# Altium schematic symbol library Device.SchLib: 567 symbols (part 3 of 3)

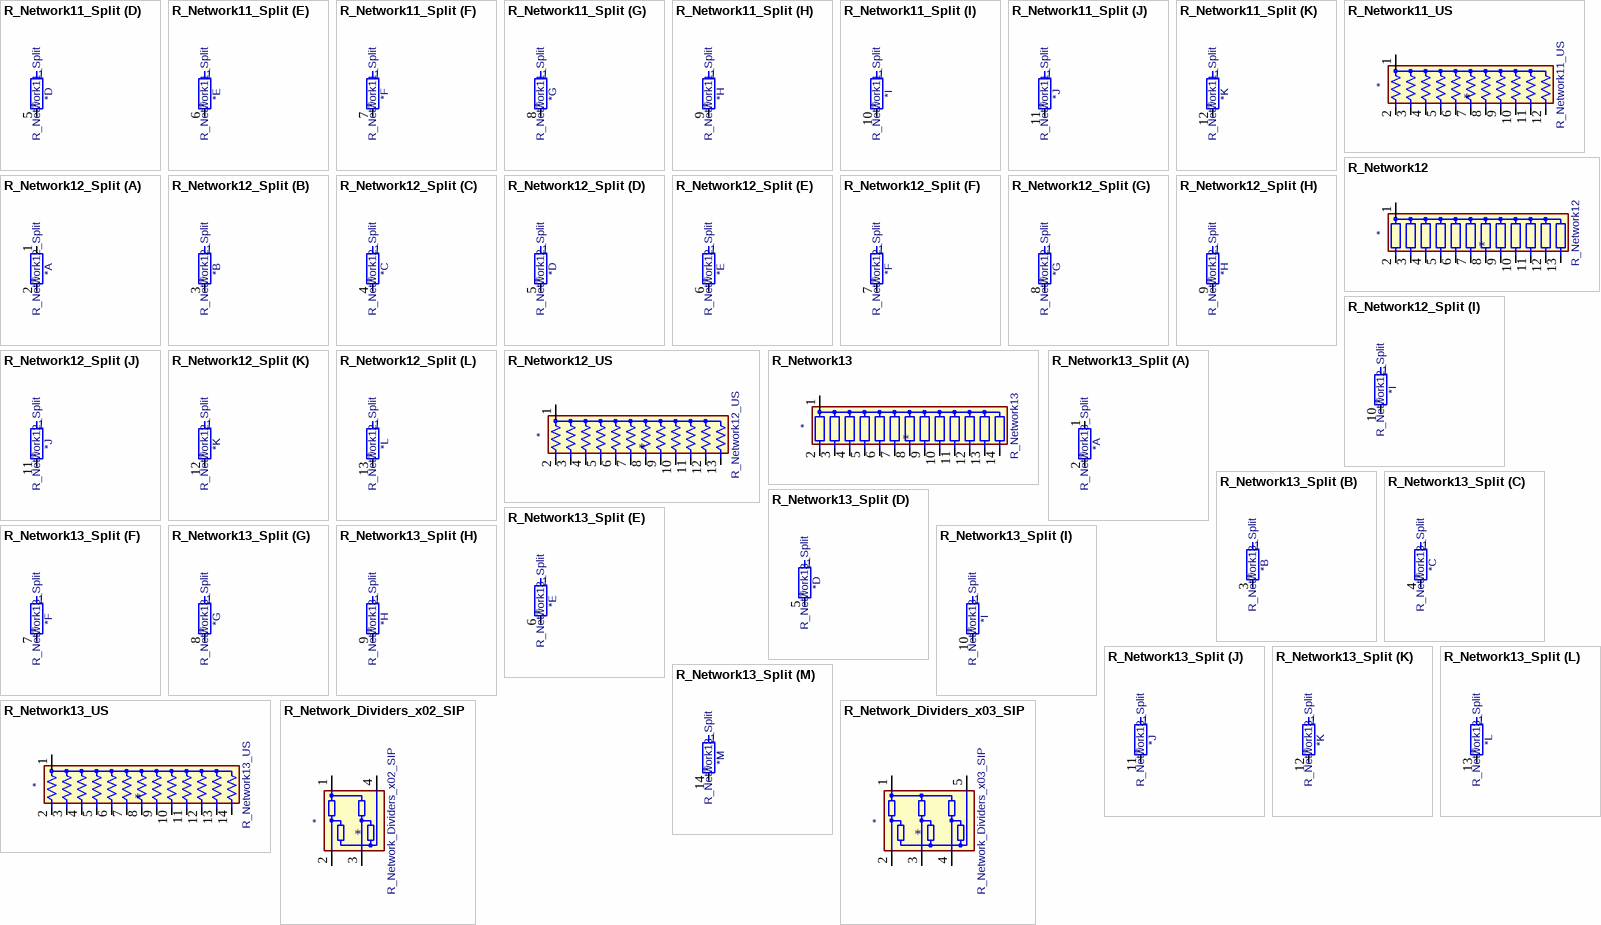
[diagram p14: symbols R_Network11_Split to R_Network_Dividers_x03_SIP]

## R_Network11_Split
designator *  value R_Network11_Split
ki_keywords: R network star-topology; ki_description: 11 resistor network, star topology, bussed resistors, split; ki_fp_filters: R?Array?SIP*; Footprint: Resistor_THT:R_Array_SIP12; Supplier: http://www.vishay.com/docs/31509/csc.pdf
footprint R_Array_SIP12
part A pins: 1 R1.1, 2 R1.2
part B pins: 3 R2.2
part C pins: 4 R3.2
part D pins: 5 R4.2
part E pins: 6 R5.2
part F pins: 7 R6.2
part G pins: 8 R7.2
part H pins: 9 R8.2
part I pins: 10 R9.2
part J pins: 11 R10.2
part K pins: 12 R11.2

## R_Network11_US
designator *  value R_Network11_US
ki_keywords: R network star-topology; ki_description: 11 resistor network, star topology, bussed resistors, small US symbol; ki_fp_filters: R?Array?SIP*; Footprint: Resistor_THT:R_Array_SIP12; Supplier: http://www.vishay.com/docs/31509/csc.pdf
footprint R_Array_SIP12
pins: 1 common, 2 R1, 3 R2, 4 R3, 5 R4, 6 R5, 7 R6, 8 R7, 9 R8, 10 R9, 11 R10, 12 R11

## R_Network12
designator *  value R_Network12
ki_keywords: R network star-topology; ki_description: 12 resistor network, star topology, bussed resistors, small symbol; ki_fp_filters: R?Array?SIP*; Footprint: Resistor_THT:R_Array_SIP13; Supplier: http://www.vishay.com/docs/31509/csc.pdf
footprint R_Array_SIP13
pins: 1 common, 2 R1, 3 R2, 4 R3, 5 R4, 6 R5, 7 R6, 8 R7, 9 R8, 10 R9, 11 R10, 12 R11, 13 R12

## R_Network12_Split
designator *  value R_Network12_Split
ki_keywords: R network star-topology; ki_description: 12 resistor network, star topology, bussed resistors, split; ki_fp_filters: R?Array?SIP*; Footprint: Resistor_THT:R_Array_SIP13; Supplier: http://www.vishay.com/docs/31509/csc.pdf
footprint R_Array_SIP13
part A pins: 1 R1.1, 2 R1.2
part B pins: 3 R2.2
part C pins: 4 R3.2
part D pins: 5 R4.2
part E pins: 6 R5.2
part F pins: 7 R6.2
part G pins: 8 R7.2
part H pins: 9 R8.2
part I pins: 10 R9.2
part J pins: 11 R10.2
part K pins: 12 R11.2
part L pins: 13 R12.2

## R_Network12_US
designator *  value R_Network12_US
ki_keywords: R network star-topology; ki_description: 12 resistor network, star topology, bussed resistors, small US symbol; ki_fp_filters: R?Array?SIP*; Footprint: Resistor_THT:R_Array_SIP13; Supplier: http://www.vishay.com/docs/31509/csc.pdf
footprint R_Array_SIP13
pins: 1 common, 2 R1, 3 R2, 4 R3, 5 R4, 6 R5, 7 R6, 8 R7, 9 R8, 10 R9, 11 R10, 12 R11, 13 R12

## R_Network13
designator *  value R_Network13
ki_keywords: R network star-topology; ki_description: 13 resistor network, star topology, bussed resistors, small symbol; ki_fp_filters: R?Array?SIP*; Footprint: Resistor_THT:R_Array_SIP14; Supplier: http://www.vishay.com/docs/31509/csc.pdf
footprint R_Array_SIP14
pins: 1 common, 2 R1, 3 R2, 4 R3, 5 R4, 6 R5, 7 R6, 8 R7, 9 R8, 10 R9, 11 R10, 12 R11, 13 R12, 14 R13

## R_Network13_Split
designator *  value R_Network13_Split
ki_keywords: R network star-topology; ki_description: 13 resistor network, star topology, bussed resistors, split; ki_fp_filters: R?Array?SIP*; Footprint: Resistor_THT:R_Array_SIP14; Supplier: http://www.vishay.com/docs/31509/csc.pdf
footprint R_Array_SIP14
part A pins: 1 R1.1, 2 R1.2
part B pins: 3 R2.2
part C pins: 4 R3.2
part D pins: 5 R4.2
part E pins: 6 R5.2
part F pins: 7 R6.2
part G pins: 8 R7.2
part H pins: 9 R8.2
part I pins: 10 R9.2
part J pins: 11 R10.2
part K pins: 12 R11.2
part L pins: 13 R12.2
part M pins: 14 R13.2

## R_Network13_US
designator *  value R_Network13_US
ki_keywords: R network star-topology; ki_description: 13 resistor network, star topology, bussed resistors, small US symbol; ki_fp_filters: R?Array?SIP*; Footprint: Resistor_THT:R_Array_SIP14; Supplier: http://www.vishay.com/docs/31509/csc.pdf
footprint R_Array_SIP14
pins: 1 common, 2 R1, 3 R2, 4 R3, 5 R4, 6 R5, 7 R6, 8 R7, 9 R8, 10 R9, 11 R10, 12 R11, 13 R12, 14 R13

## R_Network_Dividers_x02_SIP
designator *  value R_Network_Dividers_x02_SIP
ki_keywords: R network divider topology; ki_description: 2 voltage divider network, dual terminator, SIP package; ki_fp_filters: R?Array?SIP*; Footprint: Resistor_THT:R_Array_SIP4; Supplier: http://www.vishay.com/docs/31509/csc.pdf
footprint R_Array_SIP4
pins: 1 COM1, 2 R1, 3 R2, 4 COM2

## R_Network_Dividers_x03_SIP
designator *  value R_Network_Dividers_x03_SIP
ki_keywords: R network divider topology; ki_description: 3 voltage divider network, dual terminator, SIP package; ki_fp_filters: R?Array?SIP*; Footprint: Resistor_THT:R_Array_SIP5; Supplier: http://www.vishay.com/docs/31509/csc.pdf
footprint R_Array_SIP5
pins: 1 COM1, 2 R1, 3 R2, 4 R3, 5 COM2

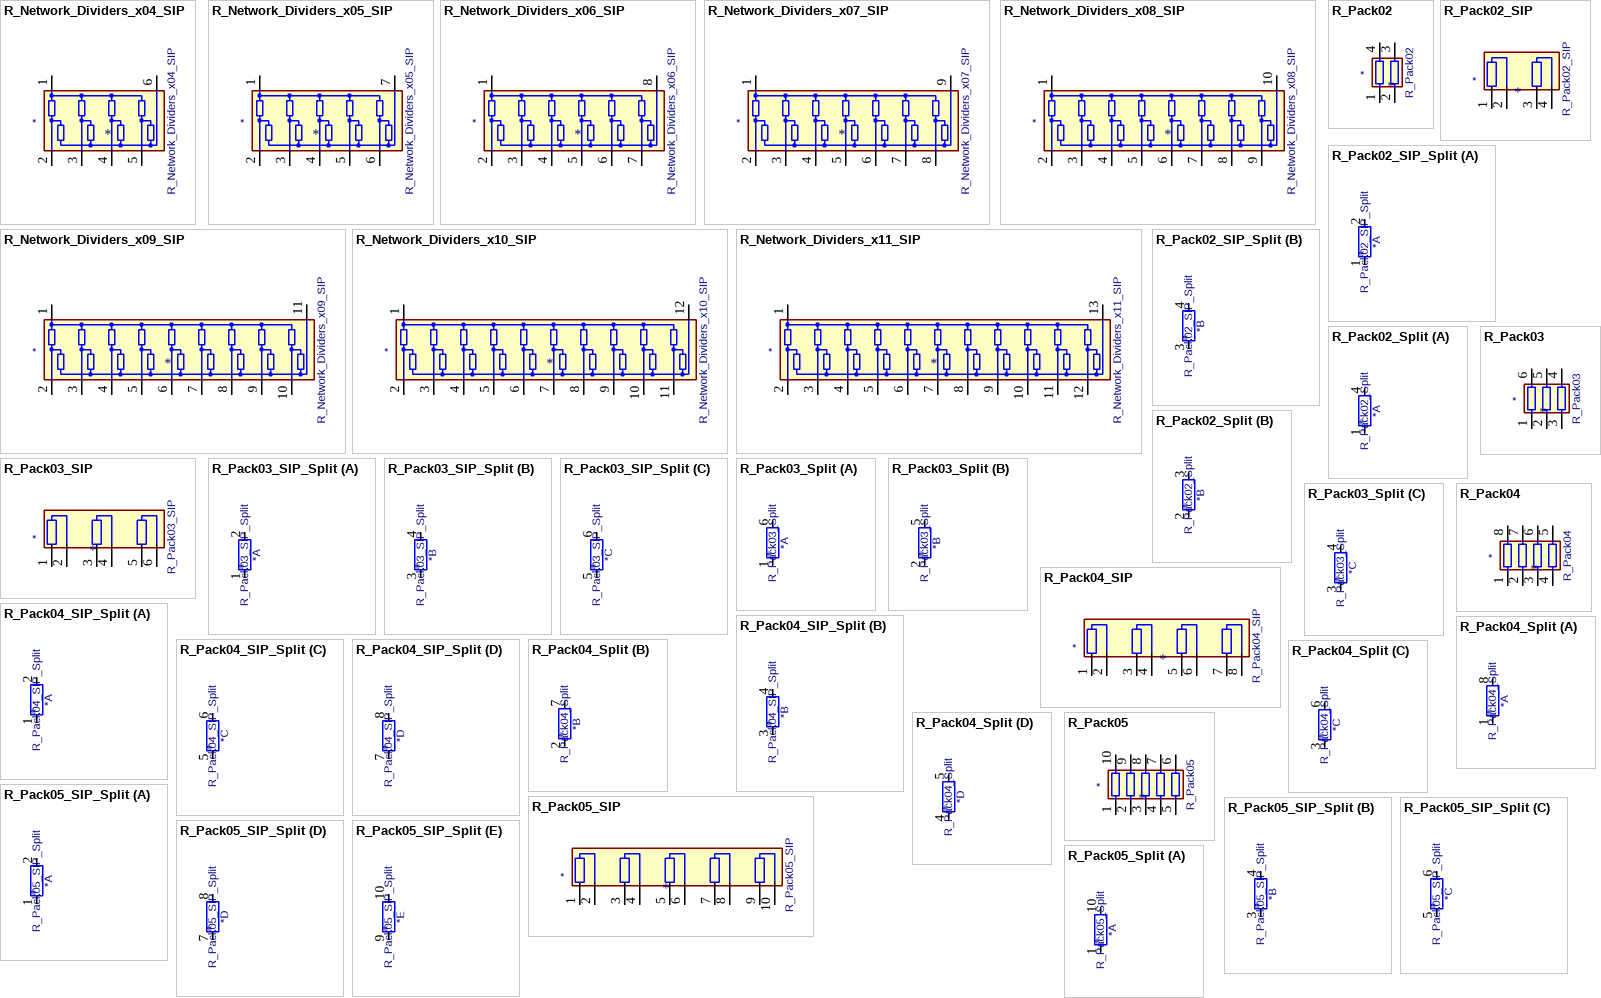
[diagram p15: symbols R_Network_Dividers_x04_SIP to R_Pack05_Split]

## R_Network_Dividers_x04_SIP
designator *  value R_Network_Dividers_x04_SIP
ki_keywords: R network divider topology; ki_description: 4 voltage divider network, dual terminator, SIP package; ki_fp_filters: R?Array?SIP*; Footprint: Resistor_THT:R_Array_SIP6; Supplier: http://www.vishay.com/docs/31509/csc.pdf
footprint R_Array_SIP6
pins: 1 COM1, 2 R1, 3 R2, 4 R3, 5 R4, 6 COM2

## R_Network_Dividers_x05_SIP
designator *  value R_Network_Dividers_x05_SIP
ki_keywords: R network divider topology; ki_description: 5 voltage divider network, dual terminator, SIP package; ki_fp_filters: R?Array?SIP*; Footprint: Resistor_THT:R_Array_SIP7; Supplier: http://www.vishay.com/docs/31509/csc.pdf
footprint R_Array_SIP7
pins: 1 COM1, 2 R1, 3 R2, 4 R3, 5 R4, 6 R5, 7 COM2

## R_Network_Dividers_x06_SIP
designator *  value R_Network_Dividers_x06_SIP
ki_keywords: R network divider topology; ki_description: 6 voltage divider network, dual terminator, SIP package; ki_fp_filters: R?Array?SIP*; Footprint: Resistor_THT:R_Array_SIP8; Supplier: http://www.vishay.com/docs/31509/csc.pdf
footprint R_Array_SIP8
pins: 1 COM1, 2 R1, 3 R2, 4 R3, 5 R4, 6 R5, 7 R6, 8 COM2

## R_Network_Dividers_x07_SIP
designator *  value R_Network_Dividers_x07_SIP
ki_keywords: R network divider topology; ki_description: 7 voltage divider network, dual terminator, SIP package; ki_fp_filters: R?Array?SIP*; Footprint: Resistor_THT:R_Array_SIP9; Supplier: http://www.vishay.com/docs/31509/csc.pdf
footprint R_Array_SIP9
pins: 1 COM1, 2 R1, 3 R2, 4 R3, 5 R4, 6 R5, 7 R6, 8 R7, 9 COM2

## R_Network_Dividers_x08_SIP
designator *  value R_Network_Dividers_x08_SIP
ki_keywords: R network divider topology; ki_description: 8 voltage divider network, dual terminator, SIP package; ki_fp_filters: R?Array?SIP*; Footprint: Resistor_THT:R_Array_SIP10; Supplier: http://www.vishay.com/docs/31509/csc.pdf
footprint R_Array_SIP10
pins: 1 COM1, 2 R1, 3 R2, 4 R3, 5 R4, 6 R5, 7 R6, 8 R7, 9 R8, 10 COM2

## R_Network_Dividers_x09_SIP
designator *  value R_Network_Dividers_x09_SIP
ki_keywords: R network divider topology; ki_description: 9 voltage divider network, dual terminator, SIP package; ki_fp_filters: R?Array?SIP*; Footprint: Resistor_THT:R_Array_SIP11; Supplier: http://www.vishay.com/docs/31509/csc.pdf
footprint R_Array_SIP11
pins: 1 COM1, 2 R1, 3 R2, 4 R3, 5 R4, 6 R5, 7 R6, 8 R7, 9 R8, 10 R9, 11 COM2

## R_Network_Dividers_x10_SIP
designator *  value R_Network_Dividers_x10_SIP
ki_keywords: R network divider topology; ki_description: 10 voltage divider network, dual terminator, SIP package; ki_fp_filters: R?Array?SIP*; Footprint: Resistor_THT:R_Array_SIP12; Supplier: http://www.vishay.com/docs/31509/csc.pdf
footprint R_Array_SIP12
pins: 1 COM1, 2 R1, 3 R2, 4 R3, 5 R4, 6 R5, 7 R6, 8 R7, 9 R8, 10 R9, 11 R10, 12 COM2

## R_Network_Dividers_x11_SIP
designator *  value R_Network_Dividers_x11_SIP
ki_keywords: R network divider topology; ki_description: 11 voltage divider network, dual terminator, SIP package; ki_fp_filters: R?Array?SIP*; Footprint: Resistor_THT:R_Array_SIP13; Supplier: http://www.vishay.com/docs/31509/csc.pdf
footprint R_Array_SIP13
pins: 1 COM1, 2 R1, 3 R2, 4 R3, 5 R4, 6 R5, 7 R6, 8 R7, 9 R8, 10 R9, 11 R10, 12 R11, 13 COM2

## R_Pack02
designator *  value R_Pack02
ki_keywords: R network parallel topology isolated; ki_description: 2 resistor network, parallel topology; ki_fp_filters: DIP* SOIC* R*Array*Concave* R*Array*Convex*; Supplier: ~
pins: 1 R1.1, 2 R2.1, 3 R2.2, 4 R1.2

## R_Pack02_SIP
designator *  value R_Pack02_SIP
ki_keywords: R network parallel topology isolated; ki_description: 2 resistor network, parallel topology, SIP package; ki_fp_filters: R?Array?SIP*; Footprint: Resistor_THT:R_Array_SIP4; Supplier: http://www.vishay.com/docs/31509/csc.pdf
footprint R_Array_SIP4
pins: 1 R1.1, 2 R1.2, 3 R2.1, 4 R2.2

## R_Pack02_SIP_Split
designator *  value R_Pack02_SIP_Split
ki_keywords: R network parallel topology isolated; ki_description: 2 resistor network, parallel topology, SIP package, split; ki_fp_filters: R?Array?SIP*; Footprint: Resistor_THT:R_Array_SIP4; Supplier: http://www.vishay.com/docs/31509/csc.pdf
footprint R_Array_SIP4
part A pins: 1 R1.1, 2 R1.2
part B pins: 3 R2.1, 4 R2.2

## R_Pack02_Split
designator *  value R_Pack02_Split
ki_keywords: R network parallel topology isolated; ki_description: 2 resistor network, parallel topology, split; ki_fp_filters: DIP* SOIC* R*Array*Concave* R*Array*Convex*; Supplier: ~
part A pins: 1 R1.1, 4 R1.2
part B pins: 2 R2.1, 3 R2.2

## R_Pack03
designator *  value R_Pack03
ki_keywords: R network parallel topology isolated; ki_description: 3 resistor network, parallel topology; ki_fp_filters: DIP* SOIC* R*Array*Concave* R*Array*Convex*; Supplier: ~
pins: 1 R1.1, 2 R2.1, 3 R3.1, 4 R3.2, 5 R2.2, 6 R1.2

## R_Pack03_SIP
designator *  value R_Pack03_SIP
ki_keywords: R network parallel topology isolated; ki_description: 3 resistor network, parallel topology, SIP package; ki_fp_filters: R?Array?SIP*; Footprint: Resistor_THT:R_Array_SIP6; Supplier: http://www.vishay.com/docs/31509/csc.pdf
footprint R_Array_SIP6
pins: 1 R1.1, 2 R1.2, 3 R2.1, 4 R2.2, 5 R3.1, 6 R3.2

## R_Pack03_SIP_Split
designator *  value R_Pack03_SIP_Split
ki_keywords: R network parallel topology isolated; ki_description: 3 resistor network, parallel topology, SIP package, split; ki_fp_filters: R?Array?SIP*; Footprint: Resistor_THT:R_Array_SIP6; Supplier: http://www.vishay.com/docs/31509/csc.pdf
footprint R_Array_SIP6
part A pins: 1 R1.1, 2 R1.2
part B pins: 3 R2.1, 4 R2.2
part C pins: 5 R3.1, 6 R3.2

## R_Pack03_Split
designator *  value R_Pack03_Split
ki_keywords: R network parallel topology isolated; ki_description: 3 resistor network, parallel topology, split; ki_fp_filters: DIP* SOIC* R*Array*Concave* R*Array*Convex*; Supplier: ~
part A pins: 1 R1.1, 6 R1.2
part B pins: 2 R2.1, 5 R2.2
part C pins: 3 R3.1, 4 R3.2

## R_Pack04
designator *  value R_Pack04
ki_keywords: R network parallel topology isolated; ki_description: 4 resistor network, parallel topology; ki_fp_filters: DIP* SOIC* R*Array*Concave* R*Array*Convex*; Supplier: ~
pins: 1 R1.1, 2 R2.1, 3 R3.1, 4 R4.1, 5 R4.2, 6 R3.2, 7 R2.2, 8 R1.2

## R_Pack04_SIP
designator *  value R_Pack04_SIP
ki_keywords: R network parallel topology isolated; ki_description: 4 resistor network, parallel topology, SIP package; ki_fp_filters: R?Array?SIP*; Footprint: Resistor_THT:R_Array_SIP8; Supplier: http://www.vishay.com/docs/31509/csc.pdf
footprint R_Array_SIP8
pins: 1 R1.1, 2 R1.2, 3 R2.1, 4 R2.2, 5 R3.1, 6 R3.2, 7 R4.1, 8 R4.2

## R_Pack04_SIP_Split
designator *  value R_Pack04_SIP_Split
ki_keywords: R network parallel topology isolated; ki_description: 4 resistor network, parallel topology, SIP package, split; ki_fp_filters: R?Array?SIP*; Footprint: Resistor_THT:R_Array_SIP8; Supplier: http://www.vishay.com/docs/31509/csc.pdf
footprint R_Array_SIP8
part A pins: 1 R1.1, 2 R1.2
part B pins: 3 R2.1, 4 R2.2
part C pins: 5 R3.1, 6 R3.2
part D pins: 7 R4.1, 8 R4.2

## R_Pack04_Split
designator *  value R_Pack04_Split
ki_keywords: R network parallel topology isolated; ki_description: 4 resistor network, parallel topology, split; ki_fp_filters: DIP* SOIC* R*Array*Concave* R*Array*Convex*; Supplier: ~
part A pins: 1 R1.1, 8 R1.2
part B pins: 2 R2.1, 7 R2.2
part C pins: 3 R3.1, 6 R3.2
part D pins: 4 R4.1, 5 R4.2

## R_Pack05
designator *  value R_Pack05
ki_keywords: R network parallel topology isolated; ki_description: 5 resistor network, parallel topology; ki_fp_filters: DIP* SOIC* R*Array*Concave* R*Array*Convex*; Supplier: ~
pins: 1 R1.1, 2 R2.1, 3 R3.1, 4 R4.1, 5 R5.1, 6 R5.2, 7 R4.2, 8 R3.2, 9 R2.2, 10 R1.2

## R_Pack05_SIP
designator *  value R_Pack05_SIP
ki_keywords: R network parallel topology isolated; ki_description: 5 resistor network, parallel topology, SIP package; ki_fp_filters: R?Array?SIP*; Footprint: Resistor_THT:R_Array_SIP10; Supplier: http://www.vishay.com/docs/31509/csc.pdf
footprint R_Array_SIP10
pins: 1 R1.1, 2 R1.2, 3 R2.1, 4 R2.2, 5 R3.1, 6 R3.2, 7 R4.1, 8 R4.2, 9 R5.1, 10 R5.2

## R_Pack05_SIP_Split
designator *  value R_Pack05_SIP_Split
ki_keywords: R network parallel topology isolated; ki_description: 5 resistor network, parallel topology, SIP package, split; ki_fp_filters: R?Array?SIP*; Footprint: Resistor_THT:R_Array_SIP10; Supplier: http://www.vishay.com/docs/31509/csc.pdf
footprint R_Array_SIP10
part A pins: 1 R1.1, 2 R1.2
part B pins: 3 R2.1, 4 R2.2
part C pins: 5 R3.1, 6 R3.2
part D pins: 7 R4.1, 8 R4.2
part E pins: 9 R5.1, 10 R5.2

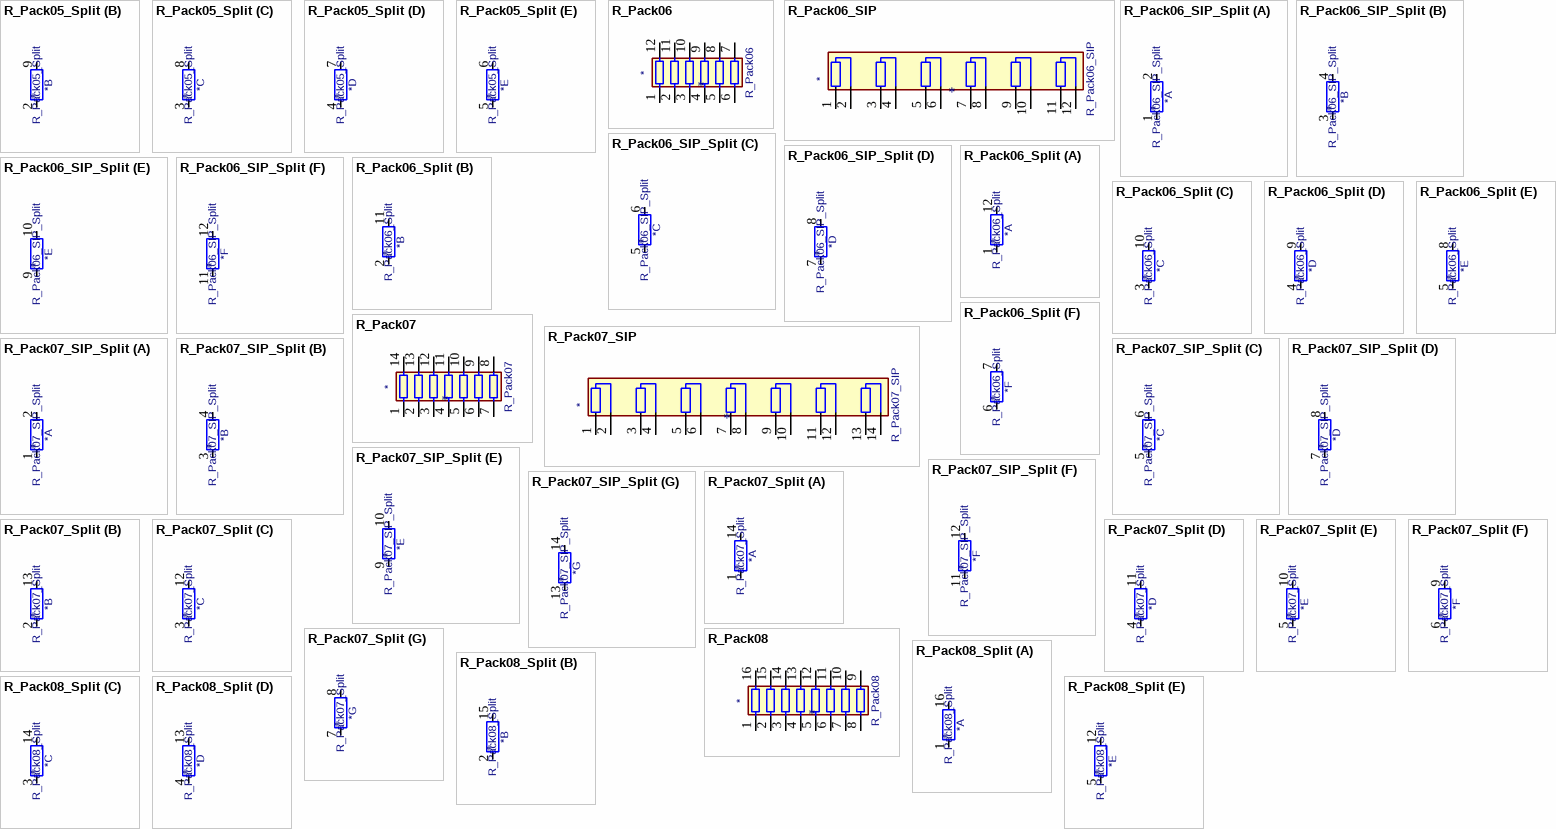
[diagram p16: symbols R_Pack05_Split to R_Pack08_Split]

## R_Pack05_Split
designator *  value R_Pack05_Split
ki_keywords: R network parallel topology isolated; ki_description: 5 resistor network, parallel topology, split; ki_fp_filters: DIP* SOIC* R*Array*Concave* R*Array*Convex*; Supplier: ~
part A pins: 1 R1.1, 10 R1.2
part B pins: 2 R2.1, 9 R2.2
part C pins: 3 R3.1, 8 R3.2
part D pins: 4 R4.1, 7 R4.2
part E pins: 5 R5.1, 6 R5.2

## R_Pack06
designator *  value R_Pack06
ki_keywords: R network parallel topology isolated; ki_description: 6 resistor network, parallel topology; ki_fp_filters: DIP* SOIC* R*Array*Concave* R*Array*Convex*; Supplier: ~
pins: 1 R1.1, 2 R2.1, 3 R3.1, 4 R4.1, 5 R5.1, 6 R6.1, 7 R6.2, 8 R5.2, 9 R4.2, 10 R3.2, 11 R2.2, 12 R1.2

## R_Pack06_SIP
designator *  value R_Pack06_SIP
ki_keywords: R network parallel topology isolated; ki_description: 6 resistor network, parallel topology, SIP package; ki_fp_filters: R?Array?SIP*; Footprint: Resistor_THT:R_Array_SIP12; Supplier: http://www.vishay.com/docs/31509/csc.pdf
footprint R_Array_SIP12
pins: 1 R1.1, 2 R1.2, 3 R2.1, 4 R2.2, 5 R3.1, 6 R3.2, 7 R4.1, 8 R4.2, 9 R5.1, 10 R5.2, 11 R6.1, 12 R6.2

## R_Pack06_SIP_Split
designator *  value R_Pack06_SIP_Split
ki_keywords: R network parallel topology isolated; ki_description: 6 resistor network, parallel topology, SIP package, split; ki_fp_filters: R?Array?SIP*; Footprint: Resistor_THT:R_Array_SIP12; Supplier: http://www.vishay.com/docs/31509/csc.pdf
footprint R_Array_SIP12
part A pins: 1 R1.1, 2 R1.2
part B pins: 3 R2.1, 4 R2.2
part C pins: 5 R3.1, 6 R3.2
part D pins: 7 R4.1, 8 R4.2
part E pins: 9 R5.1, 10 R5.2
part F pins: 11 R6.1, 12 R6.2

## R_Pack06_Split
designator *  value R_Pack06_Split
ki_keywords: R network parallel topology isolated; ki_description: 6 resistor network, parallel topology, split; ki_fp_filters: DIP* SOIC* R*Array*Concave* R*Array*Convex*; Supplier: ~
part A pins: 1 R1.1, 12 R1.2
part B pins: 2 R2.1, 11 R2.2
part C pins: 3 R3.1, 10 R3.2
part D pins: 4 R4.1, 9 R4.2
part E pins: 5 R5.1, 8 R5.2
part F pins: 6 R6.1, 7 R6.2

## R_Pack07
designator *  value R_Pack07
ki_keywords: R network parallel topology isolated; ki_description: 7 resistor network, parallel topology; ki_fp_filters: DIP* SOIC* R*Array*Concave* R*Array*Convex*; Supplier: ~
pins: 1 R1.1, 2 R2.1, 3 R3.1, 4 R4.1, 5 R5.1, 6 R6.1, 7 R7.1, 8 R7.2, 9 R6.2, 10 R5.2, 11 R4.2, 12 R3.2, 13 R2.2, 14 R1.2

## R_Pack07_SIP
designator *  value R_Pack07_SIP
ki_keywords: R network parallel topology isolated; ki_description: 7 resistor network, parallel topology, SIP package; ki_fp_filters: R?Array?SIP*; Footprint: Resistor_THT:R_Array_SIP14; Supplier: http://www.vishay.com/docs/31509/csc.pdf
footprint R_Array_SIP14
pins: 1 R1.1, 2 R1.2, 3 R2.1, 4 R2.2, 5 R3.1, 6 R3.2, 7 R4.1, 8 R4.2, 9 R5.1, 10 R5.2, 11 R6.1, 12 R6.2, 13 R7.1, 14 R7.2

## R_Pack07_SIP_Split
designator *  value R_Pack07_SIP_Split
ki_keywords: R network parallel topology isolated; ki_description: 7 resistor network, parallel topology, SIP package, split; ki_fp_filters: R?Array?SIP*; Footprint: Resistor_THT:R_Array_SIP14; Supplier: http://www.vishay.com/docs/31509/csc.pdf
footprint R_Array_SIP14
part A pins: 1 R1.1, 2 R1.2
part B pins: 3 R2.1, 4 R2.2
part C pins: 5 R3.1, 6 R3.2
part D pins: 7 R4.1, 8 R4.2
part E pins: 9 R5.1, 10 R5.2
part F pins: 11 R6.1, 12 R6.2
part G pins: 13 R7.1, 14 R7.2

## R_Pack07_Split
designator *  value R_Pack07_Split
ki_keywords: R network parallel topology isolated; ki_description: 7 resistor network, parallel topology, split; ki_fp_filters: DIP* SOIC* R*Array*Concave* R*Array*Convex*; Supplier: ~
part A pins: 1 R1.1, 14 R1.2
part B pins: 2 R2.1, 13 R2.2
part C pins: 3 R3.1, 12 R3.2
part D pins: 4 R4.1, 11 R4.2
part E pins: 5 R5.1, 10 R5.2
part F pins: 6 R6.1, 9 R6.2
part G pins: 7 R7.1, 8 R7.2

## R_Pack08
designator *  value R_Pack08
ki_keywords: R network parallel topology isolated; ki_description: 8 resistor network, parallel topology; ki_fp_filters: DIP* SOIC* R*Array*Concave* R*Array*Convex*; Supplier: ~
pins: 1 R1.1, 2 R2.1, 3 R3.1, 4 R4.1, 5 R5.1, 6 R6.1, 7 R7.1, 8 R8.1, 9 R8.2, 10 R7.2, 11 R6.2, 12 R5.2, 13 R4.2, 14 R3.2, 15 R2.2, 16 R1.2

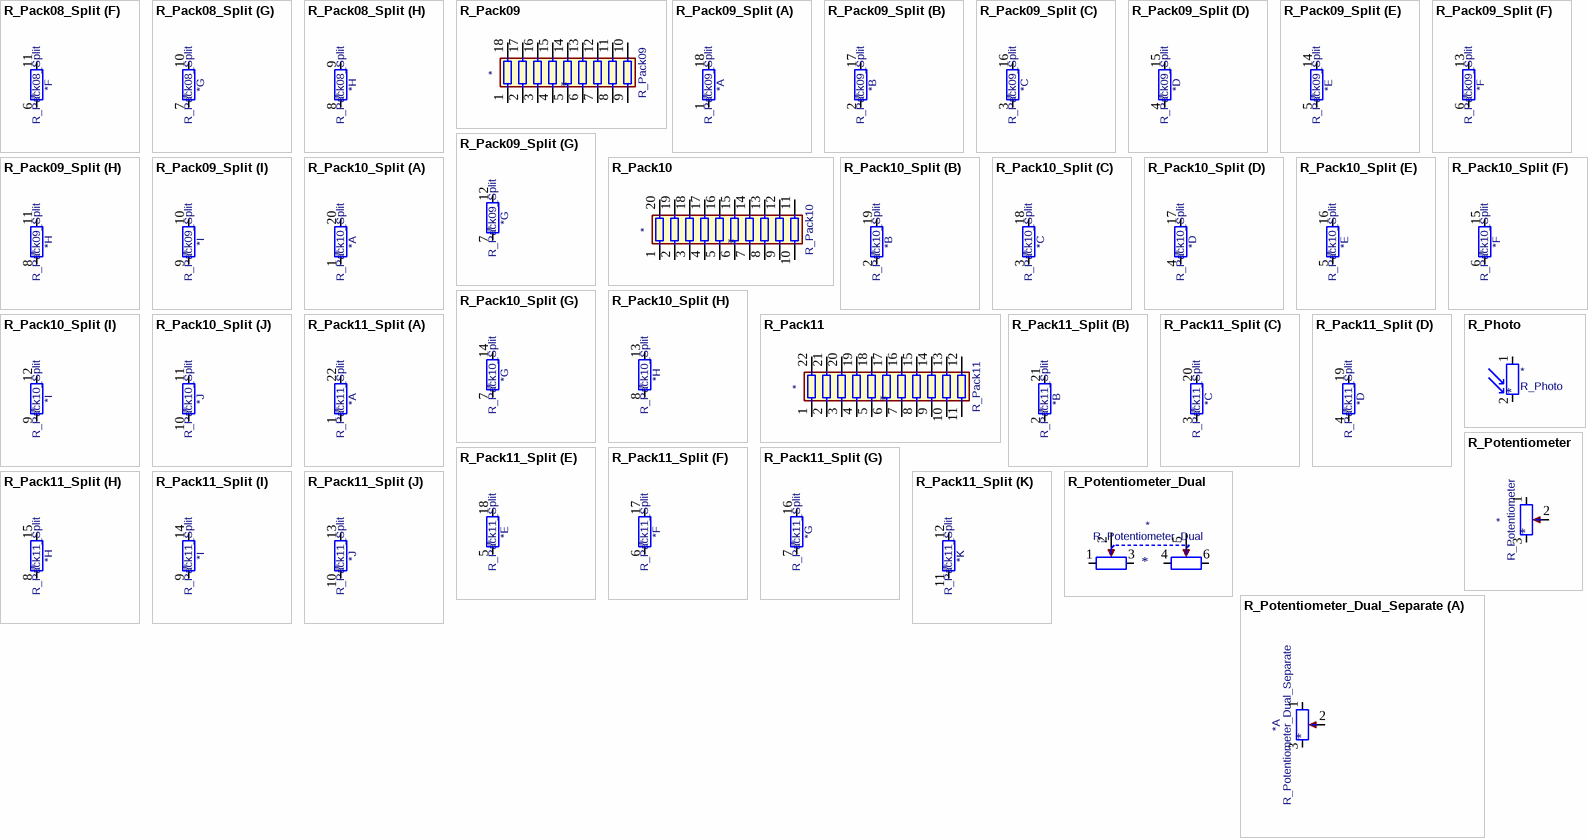
[diagram p17: symbols R_Pack08_Split to R_Potentiometer_Dual_Separate]

## R_Pack08_Split
designator *  value R_Pack08_Split
ki_keywords: R network parallel topology isolated; ki_description: 8 resistor network, parallel topology, split; ki_fp_filters: DIP* SOIC* R*Array*Concave* R*Array*Convex*; Supplier: ~
part A pins: 1 R1.1, 16 R1.2
part B pins: 2 R2.1, 15 R2.2
part C pins: 3 R3.1, 14 R3.2
part D pins: 4 R4.1, 13 R4.2
part E pins: 5 R5.1, 12 R5.2
part F pins: 6 R6.1, 11 R6.2
part G pins: 7 R7.1, 10 R7.2
part H pins: 8 R8.1, 9 R8.2

## R_Pack09
designator *  value R_Pack09
ki_keywords: R network parallel topology isolated; ki_description: 9 resistor network, parallel topology; ki_fp_filters: DIP* SOIC* R*Array*Concave* R*Array*Convex*; Supplier: ~
pins: 1 R1.1, 2 R2.1, 3 R3.1, 4 R4.1, 5 R5.1, 6 R6.1, 7 R7.1, 8 R8.1, 9 R9.1, 10 R9.2, 11 R8.2, 12 R7.2, 13 R6.2, 14 R5.2, 15 R4.2, 16 R3.2, 17 R2.2, 18 R1.2

## R_Pack09_Split
designator *  value R_Pack09_Split
ki_keywords: R network parallel topology isolated; ki_description: 9 resistor network, parallel topology, split; ki_fp_filters: DIP* SOIC* R*Array*Concave* R*Array*Convex*; Supplier: ~
part A pins: 1 R1.1, 18 R1.2
part B pins: 2 R2.1, 17 R2.2
part C pins: 3 R3.1, 16 R3.2
part D pins: 4 R4.1, 15 R4.2
part E pins: 5 R5.1, 14 R5.2
part F pins: 6 R6.1, 13 R6.2
part G pins: 7 R7.1, 12 R7.2
part H pins: 8 R8.1, 11 R8.2
part I pins: 9 R9.1, 10 R9.2

## R_Pack10
designator *  value R_Pack10
ki_keywords: R network parallel topology isolated; ki_description: 10 resistor network, parallel topology; ki_fp_filters: DIP* SOIC* R*Array*Concave* R*Array*Convex*; Supplier: ~
pins: 1 R1.1, 2 R2.1, 3 R3.1, 4 R4.1, 5 R5.1, 6 R6.1, 7 R7.1, 8 R8.1, 9 R9.1, 10 R10.1, 11 R10.2, 12 R9.2, 13 R8.2, 14 R7.2, 15 R6.2, 16 R5.2, 17 R4.2, 18 R3.2, 19 R2.2, 20 R1.2

## R_Pack10_Split
designator *  value R_Pack10_Split
ki_keywords: R network parallel topology isolated; ki_description: 10 resistor network, parallel topology, split; ki_fp_filters: DIP* SOIC* R*Array*Concave* R*Array*Convex*; Supplier: ~
part A pins: 1 R1.1, 20 R1.2
part B pins: 2 R2.1, 19 R2.2
part C pins: 3 R3.1, 18 R3.2
part D pins: 4 R4.1, 17 R4.2
part E pins: 5 R5.1, 16 R5.2
part F pins: 6 R6.1, 15 R6.2
part G pins: 7 R7.1, 14 R7.2
part H pins: 8 R8.1, 13 R8.2
part I pins: 9 R9.1, 12 R9.2
part J pins: 10 R10.1, 11 R10.2

## R_Pack11
designator *  value R_Pack11
ki_keywords: R network parallel topology isolated; ki_description: 11 resistor network, parallel topology; ki_fp_filters: DIP* SOIC* R*Array*Concave* R*Array*Convex*; Supplier: ~
pins: 1 R1.1, 2 R2.1, 3 R3.1, 4 R4.1, 5 R5.1, 6 R6.1, 7 R7.1, 8 R8.1, 9 R9.1, 10 R10.1, 11 R11.1, 12 R11.2, 13 R10.2, 14 R9.2, 15 R8.2, 16 R7.2, 17 R6.2, 18 R5.2, 19 R4.2, 20 R3.2, 21 R2.2, 22 R1.2

## R_Pack11_Split
designator *  value R_Pack11_Split
ki_keywords: R network parallel topology isolated; ki_description: 11 resistor network, parallel topology, split; ki_fp_filters: DIP* SOIC* R*Array*Concave* R*Array*Convex*; Supplier: ~
part A pins: 1 R1.1, 22 R1.2
part B pins: 2 R2.1, 21 R2.2
part C pins: 3 R3.1, 20 R3.2
part D pins: 4 R4.1, 19 R4.2
part E pins: 5 R5.1, 18 R5.2
part F pins: 6 R6.1, 17 R6.2
part G pins: 7 R7.1, 16 R7.2
part H pins: 8 R8.1, 15 R8.2
part I pins: 9 R9.1, 14 R9.2
part J pins: 10 R10.1, 13 R10.2
part K pins: 11 R11.1, 12 R11.2

## R_Photo
designator *  value R_Photo
ki_keywords: resistor variable light sensitive opto LDR; ki_description: Photoresistor; ki_fp_filters: *LDR* R?LDR*; Supplier: ~
pins: 1, 2

## R_Potentiometer
designator *  value R_Potentiometer
ki_keywords: resistor variable; ki_description: Potentiometer; ki_fp_filters: Potentiometer*; Supplier: ~
pins: 1, 2, 3

## R_Potentiometer_Dual
designator *  value R_Potentiometer_Dual
ki_keywords: resistor variable; ki_description: Dual potentiometer; ki_fp_filters: Potentiometer*; Supplier: ~
pins: 1, 2, 3, 4, 5, 6

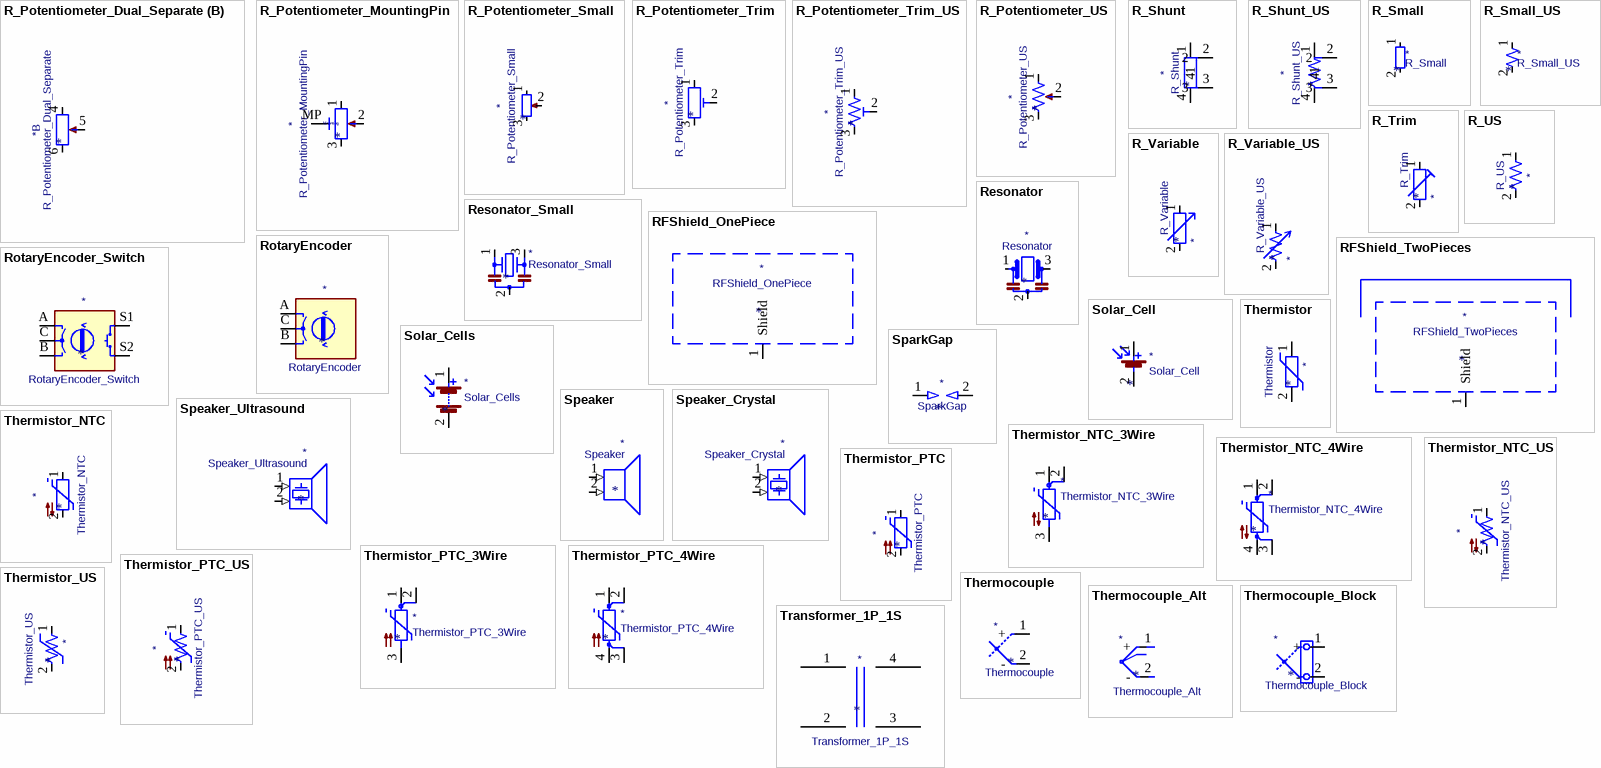
[diagram p18: symbols R_Potentiometer_Dual_Separate to Transformer_1P_1S]

## R_Potentiometer_Dual_Separate
designator *  value R_Potentiometer_Dual_Separate
ki_keywords: resistor variable; ki_description: Dual potentiometer, separate units; ki_fp_filters: Potentiometer*; Supplier: ~
part A pins: 1, 2, 3
part B pins: 4, 5, 6

## R_Potentiometer_MountingPin
designator *  value R_Potentiometer_MountingPin
ki_keywords: resistor variable; ki_description: Potentiometer with a mounting pin; ki_fp_filters: Potentiometer*; Supplier: ~
pins: 1, 2, 3, MP MountPin
text: Mounting

## R_Potentiometer_Small
designator *  value R_Potentiometer_Small
ki_keywords: resistor variable; ki_description: Potentiometer; ki_fp_filters: Potentiometer*; Supplier: ~
pins: 1, 2, 3

## R_Potentiometer_Trim
designator *  value R_Potentiometer_Trim
ki_keywords: resistor variable trimpot trimmer; ki_description: Trim-potentiometer; ki_fp_filters: Potentiometer*; Supplier: ~
pins: 1, 2, 3

## R_Potentiometer_Trim_US
designator *  value R_Potentiometer_Trim_US
ki_keywords: resistor variable trimpot trimmer; ki_description: Trim-potentiometer, US symbol; ki_fp_filters: Potentiometer*; Supplier: ~
pins: 1, 2, 3

## R_Potentiometer_US
designator *  value R_Potentiometer_US
ki_keywords: resistor variable; ki_description: Potentiometer, US symbol; ki_fp_filters: Potentiometer*; Supplier: ~
pins: 1, 2, 3

## R_Shunt
designator *  value R_Shunt
ki_keywords: R res shunt resistor; ki_description: Shunt resistor; ki_fp_filters: R_*Shunt*; Supplier: ~
pins: 1, 2, 3, 4

## R_Shunt_US
designator *  value R_Shunt_US
ki_keywords: R res shunt resistor; ki_description: Shunt resistor, US symbol; ki_fp_filters: R_*Shunt*; Supplier: ~
pins: 1, 2, 3, 4

## R_Small
designator *  value R_Small
ki_keywords: R resistor; ki_description: Resistor, small symbol; ki_fp_filters: R_*; Supplier: ~
pins: 1, 2

## R_Small_US
designator *  value R_Small_US
ki_keywords: r resistor; ki_description: Resistor, small US symbol; ki_fp_filters: R_*; Supplier: ~
pins: 1, 2

## R_Trim
designator *  value R_Trim
ki_keywords: R res resistor variable potentiometer trimmer; ki_description: Trimmable resistor (preset resistor); ki_fp_filters: R_*; Supplier: ~
pins: 1, 2

## R_US
designator *  value R_US
ki_keywords: R res resistor; ki_description: Resistor, US symbol; ki_fp_filters: R_*; Supplier: ~
pins: 1, 2

## R_Variable
designator *  value R_Variable
ki_keywords: R res resistor variable potentiometer rheostat; ki_description: Variable resistor; ki_fp_filters: R_*; Supplier: ~
pins: 1, 2

## R_Variable_US
designator *  value R_Variable_US
ki_keywords: R res resistor variable potentiometer rheostat; ki_description: Variable resistor, US symbol; ki_fp_filters: R_*; Supplier: ~
pins: 1, 2

## Resonator
designator *  value Resonator
ki_keywords: ceramic resonator; ki_description: Three pin ceramic resonator; ki_fp_filters: Filter* Resonator*; Supplier: ~
pins: 1, 2, 3

## Resonator_Small
designator *  value Resonator_Small
ki_keywords: ceramic resonator; ki_description: Three pin ceramic resonator, small symbol; ki_fp_filters: Filter* Resonator*; Supplier: ~
pins: 1, 2, 3

## RFShield_OnePiece
designator *  value RFShield_OnePiece
ki_keywords: RF EMI shielding cabinet; ki_description: One-piece EMI RF shielding cabinet; Supplier: ~
pins: 1 Shield

## RFShield_TwoPieces
designator *  value RFShield_TwoPieces
ki_keywords: RF EMI shielding cabinet; ki_description: Two-piece EMI RF shielding cabinet; Supplier: ~
pins: 1 Shield

## RotaryEncoder
designator *  value RotaryEncoder
ki_keywords: rotary switch encoder; ki_description: Rotary encoder, dual channel, incremental quadrate outputs; ki_fp_filters: RotaryEncoder*; Supplier: ~
pins: A, B, C

## RotaryEncoder_Switch
designator *  value RotaryEncoder_Switch
ki_keywords: rotary switch encoder switch push button; ki_description: Rotary encoder, dual channel, incremental quadrate outputs, with switch; ki_fp_filters: RotaryEncoder*Switch*; Supplier: ~
pins: A, B, C, S1, S2

## Solar_Cell
designator *  value Solar_Cell
ki_keywords: solar cell; ki_description: Single solar cell; Supplier: ~
pins: 1 +, 2 -

## Solar_Cells
designator *  value Solar_Cells
ki_keywords: solar cell; ki_description: Multiple solar cells; Supplier: ~
pins: 1 +, 2 -

## SparkGap
designator *  value SparkGap
ki_keywords: spark gap ESD electrostatic suppression; ki_description: Spark gap; ki_fp_filters: SG*; Supplier: ~
pins: 1, 2

## Speaker
designator *  value Speaker
ki_keywords: speaker sound; Supplier: ~; ki_description: Speaker
pins: 1 (in), 2 (in)

## Speaker_Crystal
designator *  value Speaker_Crystal
ki_keywords: crystal speaker ultrasonic transducer; ki_description: Crystal speaker/transducer; Supplier: ~
pins: 1 (in), 2 (in)

## Speaker_Ultrasound
designator *  value Speaker_Ultrasound
ki_keywords: crystal speaker ultrasonic transducer; ki_description: Ultrasonic transducer; Supplier: ~
pins: 1 (in), 2 (in)

## Thermistor
designator *  value Thermistor
ki_keywords: R res thermistor; ki_description: Temperature dependent resistor; ki_fp_filters: R_*; Supplier: ~
pins: 1, 2

## Thermistor_NTC
designator *  value Thermistor_NTC
ki_keywords: thermistor NTC resistor sensor RTD; ki_description: Temperature dependent resistor, negative temperature coefficient; ki_fp_filters: *NTC* *Thermistor* PIN?ARRAY* bornier* *Terminal?Block* R_*; Supplier: ~
pins: 1, 2

## Thermistor_NTC_3Wire
designator *  value Thermistor_NTC_3Wire
ki_keywords: thermistor NTC resistor sensor RTD; ki_description: Temperature dependent resistor, negative temperature coefficient, 3-wire interface; ki_fp_filters: *NTC* *Thermistor* PIN?ARRAY* bornier* *Terminal?Block*; Supplier: ~
pins: 1, 2, 3

## Thermistor_NTC_4Wire
designator *  value Thermistor_NTC_4Wire
ki_keywords: thermistor NTC resistor sensor RTD; ki_description: Temperature dependent resistor, negative temperature coefficient, 4-wire interface; ki_fp_filters: *NTC* *Thermistor* PIN?ARRAY* bornier* *Terminal?Block*; Supplier: ~
pins: 1, 2, 3, 4

## Thermistor_NTC_US
designator *  value Thermistor_NTC_US
ki_keywords: thermistor NTC resistor sensor RTD; ki_description: Temperature dependent resistor, negative temperature coefficient, US symbol; ki_fp_filters: *NTC* *Thermistor* PIN?ARRAY* bornier* *Terminal?Block* R_*; Supplier: ~
pins: 1, 2

## Thermistor_PTC
designator *  value Thermistor_PTC
ki_keywords: resistor PTC thermistor sensor RTD; ki_description: Temperature dependent resistor, positive temperature coefficient; ki_fp_filters: *PTC* *Thermistor* PIN?ARRAY* bornier* *Terminal?Block* R_*; Supplier: ~
pins: 1, 2

## Thermistor_PTC_3Wire
designator *  value Thermistor_PTC_3Wire
ki_keywords: resistor PTC thermistor sensor RTD; ki_description: Temperature dependent resistor, positive temperature coefficient, 3-wire interface; ki_fp_filters: PIN_ARRAY_3X1 bornier3 TerminalBlock*3pol; Supplier: ~
pins: 1, 2, 3

## Thermistor_PTC_4Wire
designator *  value Thermistor_PTC_4Wire
ki_keywords: resistor PTC thermistor sensor RTD; ki_description: Temperature dependent resistor, positive temperature coefficient, 4-wire interface; ki_fp_filters: PIN_ARRAY_4X1 bornier4 TerminalBlock*4pol; Supplier: ~
pins: 1, 2, 3, 4

## Thermistor_PTC_US
designator *  value Thermistor_PTC_US
ki_keywords: resistor PTC thermistor sensor RTD; ki_description: Temperature dependent resistor, positive temperature coefficient, US symbol; ki_fp_filters: *PTC* *Thermistor* PIN?ARRAY* bornier* *Terminal?Block* R_*; Supplier: ~
pins: 1, 2

## Thermistor_US
designator *  value Thermistor_US
ki_keywords: R res thermistor; ki_description: Thermistor, temperature dependent resistor, US symbol; ki_fp_filters: R_*; Supplier: ~
pins: 1, 2

## Thermocouple
designator *  value Thermocouple
ki_keywords: thermocouple temperature sensor cold junction; ki_fp_filters: PIN?ARRAY* bornier* *Terminal?Block* Thermo*Couple*; Supplier: ~; ki_description: Thermocouple
pins: 1 +, 2 -

## Thermocouple_Alt
designator *  value Thermocouple_Alt
ki_keywords: thermocouple temperature sensor cold junction; ki_description: Thermocouple with connector block; ki_fp_filters: PIN?ARRAY* bornier* *Terminal?Block* Thermo*Couple*; Supplier: ~
pins: 1 +, 2 -

## Thermocouple_Block
designator *  value Thermocouple_Block
ki_keywords: thermocouple temperature sensor cold junction; ki_description: Thermocouple with isothermal block; ki_fp_filters: PIN?ARRAY* bornier* *Terminal?Block* Thermo*Couple*; Supplier: ~
pins: 1 +, 2 -

## Transformer_1P_1S
designator *  value Transformer_1P_1S
ki_keywords: transformer coil magnet; ki_description: Transformer, single primary, single secondary; Supplier: ~
pins: 1 AA, 2 AB, 3 SA, 4 SB

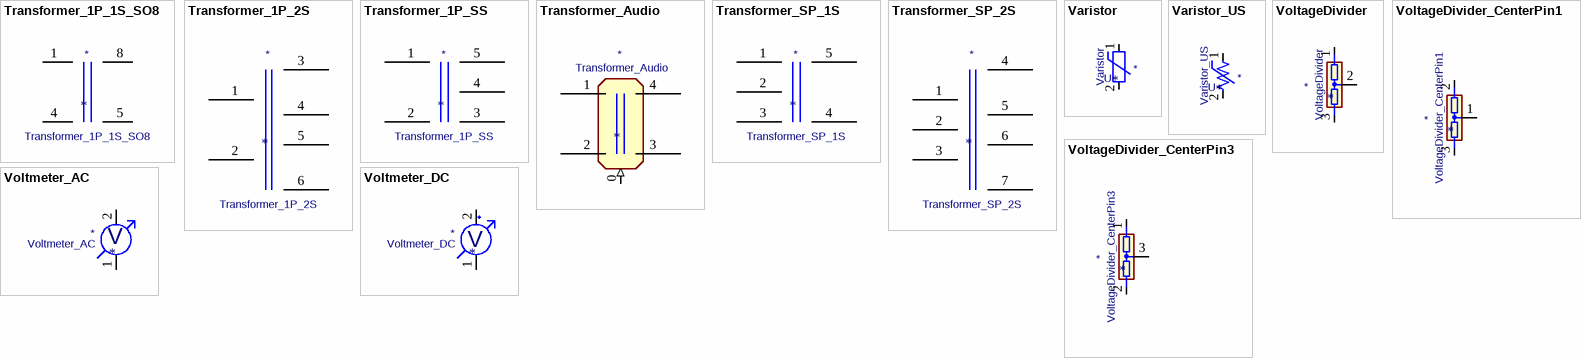
[diagram p19: symbols Transformer_1P_1S_SO8 to Voltmeter_DC]

## Transformer_1P_1S_SO8
designator *  value Transformer_1P_1S_SO8
ki_keywords: transformer coil magnet; ki_description: Transformer, single primary, single secondary, SO-8 package; Supplier: ~
pins: 1 AA, 4 AB, 5 SA, 8 SB

## Transformer_1P_2S
designator *  value Transformer_1P_2S
ki_keywords: transformer coil magnet; ki_description: Transformer, single primary, dual secondary; Supplier: ~
pins: 1 AA, 2 AB, 3 SA, 4 SB, 5 SC, 6 SD

## Transformer_1P_SS
designator *  value Transformer_1P_SS
ki_keywords: transformer coil magnet; ki_description: Transformer, single primary, split secondary; Supplier: ~
pins: 1 AA, 2 AB, 3 SA, 4 SC, 5 SB

## Transformer_Audio
designator *  value Transformer_Audio
ki_keywords: transformer coil magnet sound; ki_description: Audio transformer; Supplier: ~
pins: 0 (in), 1 AA, 2 AB, 3 SA, 4 SB

## Transformer_SP_1S
designator *  value Transformer_SP_1S
ki_keywords: transformer coil magnet; ki_description: Transformer, split primary, single secondary; Supplier: ~
pins: 1 PR1, 2 PM, 3 PR2, 4 S1, 5 S2

## Transformer_SP_2S
designator *  value Transformer_SP_2S
ki_keywords: transformer coil magnet; ki_description: Transformer, split primary, dual secondary; Supplier: ~
pins: 1 IN+, 2 PM, 3 IN-, 4 OUT1A, 5 OUT1B, 6 OUT2A, 7 OUT2B

## Varistor
designator *  value Varistor
ki_keywords: VDR resistance; ki_description: Voltage dependent resistor; ki_fp_filters: RV_* Varistor*; Supplier: ~
pins: 1, 2
text: U

## Varistor_US
designator *  value Varistor_US
ki_keywords: VDR resistance; ki_description: Voltage dependent resistor, US symbol; ki_fp_filters: RV_* Varistor*; Supplier: ~
pins: 1, 2
text: U

## VoltageDivider
designator *  value VoltageDivider
ki_keywords: R network voltage divider; ki_description: Voltage divider; ki_fp_filters: R?Array?SIP* SOT?23; Supplier: ~
pins: 1, 2, 3

## VoltageDivider_CenterPin1
designator *  value VoltageDivider_CenterPin1
ki_keywords: R network voltage divider; ki_description: Voltage divider, center on pin 1; ki_fp_filters: R?Array?SIP* SOT?23; Supplier: ~
pins: 1, 2, 3

## VoltageDivider_CenterPin3
designator *  value VoltageDivider_CenterPin3
ki_keywords: R network voltage divider; ki_description: Voltage divider, center on pin 3; ki_fp_filters: R?Array?SIP* SOT?23; Supplier: ~
pins: 1, 2, 3

## Voltmeter_AC
designator *  value Voltmeter_AC
ki_keywords: voltmeter AC; ki_description: AC voltmeter; Supplier: ~
pins: 1, 2
text: V

## Voltmeter_DC
designator *  value Voltmeter_DC
ki_keywords: voltmeter DC; ki_description: DC voltmeter; Supplier: ~
pins: 1 -, 2 +
text: V